# Altium schematic symbol library EE-SY125.SchLib: 1 symbol
Pins are listed as number, name and electrical type; pins without a type are passive.

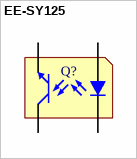
[diagram p0: symbol EE-SY125]

## EE-SY125
designator Q?  (value not drawn)
Manufacturer: Omron; Part No.: EE-SY125; Vendor: Mouser; Price Est.: $1.89
pins: 1, 2, 3, 4